# Altium integrated library Transistor.IntLib: 3457 symbols (part 63 of 78)
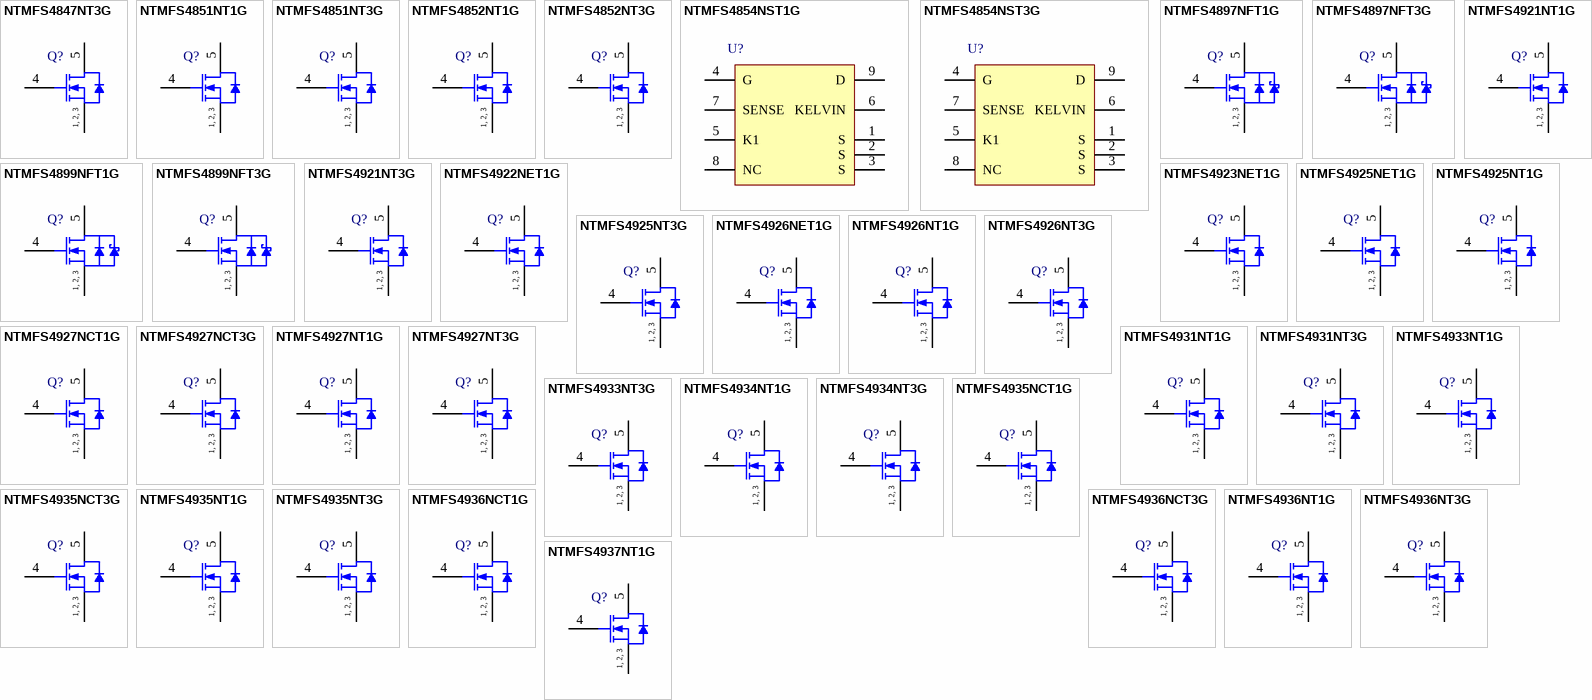
[diagram p156: symbols NTMFS4847NT3G to NTMFS4937NT1G]

## NTMFS4936NT1G
designator Q?
Power MOSFET, 30 V, 79 A, Single N-Channel, 5-Pin DFN, Pb-Free, Tape and Reel; Manufacturer: On Semiconductor; PartNumber: NTMFS4936NT1G; Channel Polarity: N Channel; Ciss Typ (pF): 3044; Coss Typ (pF): 1014; Crss Typ (pF): 39; ID Max (A): 79; Qrr Typ (nC): 36; V(BR)DSS Min (V): 30; VGS Max (V): 20; VGS(th) Max (V): 2.2; DatasheetVersion: Rev. 9; PackageVersion: Rev. H, 03/2013; PackageReference: DFN-5-488AA; PackageDescription: 5-Pin Small Outline No-Lead, Body 4.9 x 5.9 mm, Pitch 1.27 mm; Configuration: Single; Package Type: SO-8FL / DFN-5; Packing: Tape and Reel; RoHS: Pb-Free; Mounting Technology: Surface Mount; Code_JEDEC: MO-240A; ComponentLink1Description: Manufacturer URL; ComponentLink1URL: http://www.onsemi.com/; ComponentLink2Description: Datasheet; ComponentLink2URL: http://www.onsemi.com/pub_link/Collateral/NTMFS4936N-D.PDF; ComponentLink3Description: Package Specification; ComponentLink3URL: http://www.onsemi.com/pub_link/Collateral/488AA.PDF
footprint ONSC-DFN-5-488AA_V (DFN, 5-Leads, Body 5.9x4.9mm, Pitch 1.27mm)
pins: 1 S, 2 S, 3 S, 4 G, 5 D
text: 1, 2, 3

## NTMFS4936NT3G
designator Q?
Power MOSFET, 30 V, 79 A, Single N-Channel, 5-Pin DFN, Pb-Free, Tape and Reel; Manufacturer: On Semiconductor; PartNumber: NTMFS4936NT3G; Channel Polarity: N Channel; Ciss Typ (pF): 3044; Coss Typ (pF): 1014; Crss Typ (pF): 39; ID Max (A): 79; Qrr Typ (nC): 36; V(BR)DSS Min (V): 30; VGS Max (V): 20; VGS(th) Max (V): 2.2; DatasheetVersion: Rev. 9; PackageVersion: Rev. H, 03/2013; PackageReference: DFN-5-488AA; PackageDescription: 5-Pin Small Outline No-Lead, Body 4.9 x 5.9 mm, Pitch 1.27 mm; Configuration: Single; Package Type: SO-8FL / DFN-5; Packing: Tape and Reel; RoHS: Pb-Free; Mounting Technology: Surface Mount; Code_JEDEC: MO-240A; ComponentLink1Description: Manufacturer URL; ComponentLink1URL: http://www.onsemi.com/; ComponentLink2Description: Datasheet; ComponentLink2URL: http://www.onsemi.com/pub_link/Collateral/NTMFS4936N-D.PDF; ComponentLink3Description: Package Specification; ComponentLink3URL: http://www.onsemi.com/pub_link/Collateral/488AA.PDF
footprint ONSC-DFN-5-488AA_V (DFN, 5-Leads, Body 5.9x4.9mm, Pitch 1.27mm)
pins: 1 S, 2 S, 3 S, 4 G, 5 D
text: 1, 2, 3

## NTMFS4937NT1G
designator Q?
Power MOSFET, 30 V, 70 A, Single N-Channel, 5-Pin DFN, Pb-Free, Tape and Reel; Manufacturer: On Semiconductor; PartNumber: NTMFS4937NT1G; Channel Polarity: N Channel; Ciss Typ (pF): 2516; Coss Typ (pF): 840; Crss Typ (pF): 25; ID Max (A): 70; Qrr Typ (nC): 35; V(BR)DSS Min (V): 30; VGS Max (V): 20; VGS(th) Max (V): 2.2; DatasheetVersion: Rev. 6; PackageVersion: Rev. H, 03/2013; PackageReference: DFN-5-488AA; PackageDescription: 5-Pin Small Outline No-Lead, Body 4.9 x 5.9 mm, Pitch 1.27 mm; Configuration: Single; Package Type: SO-8FL / DFN-5; Packing: Tape and Reel; RoHS: Pb-Free; Mounting Technology: Surface Mount; Code_JEDEC: MO-240A; ComponentLink1Description: Manufacturer URL; ComponentLink1URL: http://www.onsemi.com/; ComponentLink2Description: Datasheet; ComponentLink2URL: http://www.onsemi.com/pub_link/Collateral/NTMFS4937N-D.PDF; ComponentLink3Description: Package Specification; ComponentLink3URL: http://www.onsemi.com/pub_link/Collateral/488AA.PDF
footprint ONSC-DFN-5-488AA_V (DFN, 5-Leads, Body 5.9x4.9mm, Pitch 1.27mm)
pins: 1 S, 2 S, 3 S, 4 G, 5 D
text: 1, 2, 3

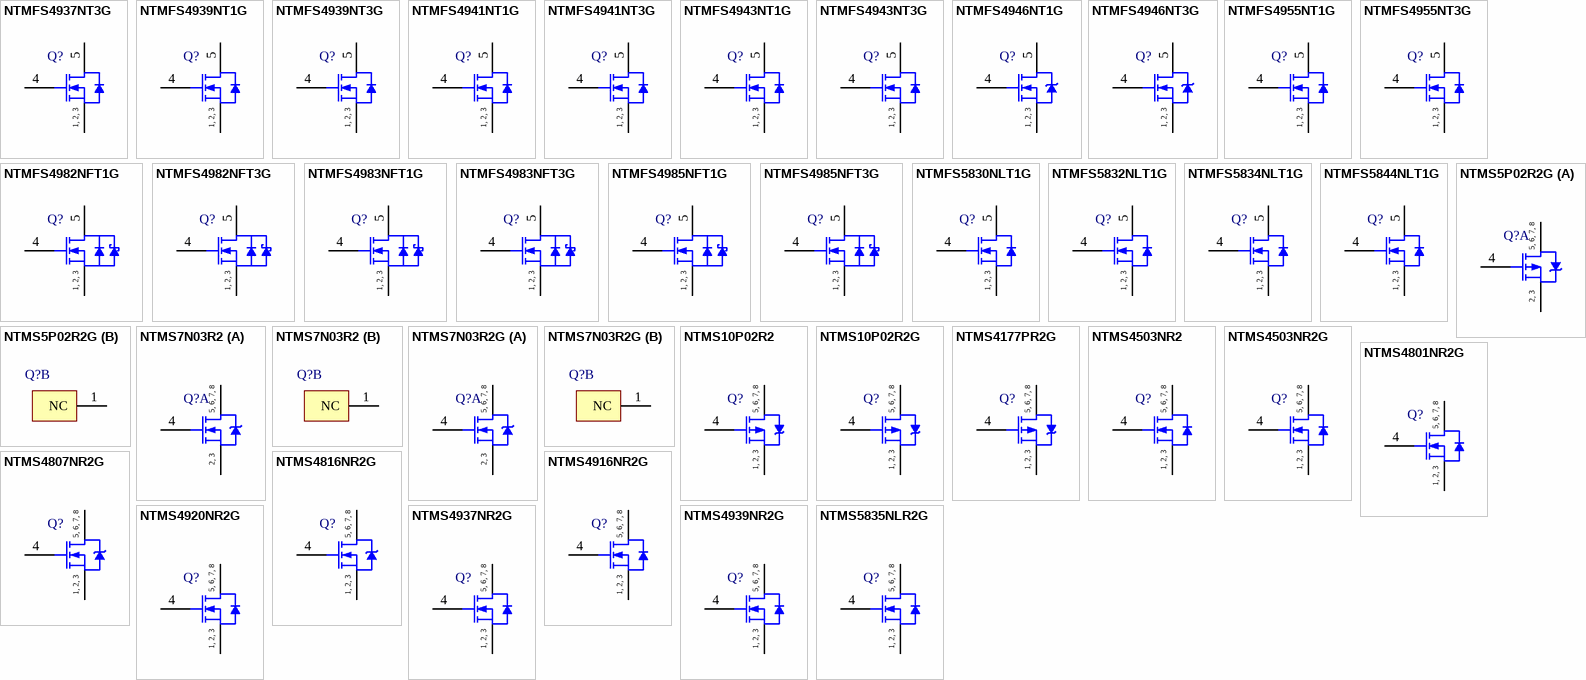
[diagram p76: symbols NTMFS4937NT3G to NTMS5835NLR2G]

## NTMFS4937NT3G
designator Q?
Power MOSFET, 30 V, 70 A, Single N-Channel, 5-Pin DFN, Pb-Free, Tape and Reel; Manufacturer: On Semiconductor; PartNumber: NTMFS4937NT3G; Channel Polarity: N Channel; Ciss Typ (pF): 2516; Coss Typ (pF): 840; Crss Typ (pF): 25; ID Max (A): 70; Qrr Typ (nC): 35; V(BR)DSS Min (V): 30; VGS Max (V): 20; VGS(th) Max (V): 2.2; DatasheetVersion: Rev. 6; PackageVersion: Rev. H, 03/2013; PackageReference: DFN-5-488AA; PackageDescription: 5-Pin Small Outline No-Lead, Body 4.9 x 5.9 mm, Pitch 1.27 mm; Configuration: Single; Package Type: SO-8FL / DFN-5; Packing: Tape and Reel; RoHS: Pb-Free; Mounting Technology: Surface Mount; Code_JEDEC: MO-240A; ComponentLink1Description: Manufacturer URL; ComponentLink1URL: http://www.onsemi.com/; ComponentLink2Description: Datasheet; ComponentLink2URL: http://www.onsemi.com/pub_link/Collateral/NTMFS4937N-D.PDF; ComponentLink3Description: Package Specification; ComponentLink3URL: http://www.onsemi.com/pub_link/Collateral/488AA.PDF
footprint ONSC-DFN-5-488AA_V (DFN, 5-Leads, Body 5.9x4.9mm, Pitch 1.27mm)
pins: 1 S, 2 S, 3 S, 4 G, 5 D
text: 1, 2, 3

## NTMFS4939NT1G
designator Q?
Power MOSFET, 30 V, 53 A, Single N-Channel, 5-Pin DFN, Pb-Free, Tape and Reel; Manufacturer: On Semiconductor; PartNumber: NTMFS4939NT1G; Channel Polarity: N Channel; Ciss Typ (pF): 1954; Coss Typ (pF): 642; Crss Typ (pF): 26.5; ID Max (A): 53; Qrr Typ (nC): 26; V(BR)DSS Min (V): 30; VGS Max (V): 20; VGS(th) Max (V): 2.2; DatasheetVersion: Rev. 5; PackageVersion: Rev. H, 03/2013; PackageReference: DFN-5-488AA; PackageDescription: 5-Pin Small Outline No-Lead, Body 4.9 x 5.9 mm, Pitch 1.27 mm; Configuration: Single; Package Type: SO-8FL / DFN-5; Packing: Tape and Reel; RoHS: Pb-Free; Mounting Technology: Surface Mount; Code_JEDEC: MO-240A; ComponentLink1Description: Manufacturer URL; ComponentLink1URL: http://www.onsemi.com/; ComponentLink2Description: Datasheet; ComponentLink2URL: http://www.onsemi.com/pub_link/Collateral/NTMFS4939N-D.PDF; ComponentLink3Description: Package Specification; ComponentLink3URL: http://www.onsemi.com/pub_link/Collateral/488AA.PDF
footprint ONSC-DFN-5-488AA_V (DFN, 5-Leads, Body 5.9x4.9mm, Pitch 1.27mm)
pins: 1 S, 2 S, 3 S, 4 G, 5 D
text: 1, 2, 3

## NTMFS4939NT3G
designator Q?
Power MOSFET, 30 V, 53 A, Single N-Channel, 5-Pin DFN, Pb-Free, Tape and Reel; Manufacturer: On Semiconductor; PartNumber: NTMFS4939NT3G; Channel Polarity: N Channel; Ciss Typ (pF): 1954; Coss Typ (pF): 642; Crss Typ (pF): 26.5; ID Max (A): 53; Qrr Typ (nC): 26; V(BR)DSS Min (V): 30; VGS Max (V): 20; VGS(th) Max (V): 2.2; DatasheetVersion: Rev. 5; PackageVersion: Rev. H, 03/2013; PackageReference: DFN-5-488AA; PackageDescription: 5-Pin Small Outline No-Lead, Body 4.9 x 5.9 mm, Pitch 1.27 mm; Configuration: Single; Package Type: SO-8FL / DFN-5; Packing: Tape and Reel; RoHS: Pb-Free; Mounting Technology: Surface Mount; Code_JEDEC: MO-240A; ComponentLink1Description: Manufacturer URL; ComponentLink1URL: http://www.onsemi.com/; ComponentLink2Description: Datasheet; ComponentLink2URL: http://www.onsemi.com/pub_link/Collateral/NTMFS4939N-D.PDF; ComponentLink3Description: Package Specification; ComponentLink3URL: http://www.onsemi.com/pub_link/Collateral/488AA.PDF
footprint ONSC-DFN-5-488AA_V (DFN, 5-Leads, Body 5.9x4.9mm, Pitch 1.27mm)
pins: 1 S, 2 S, 3 S, 4 G, 5 D
text: 1, 2, 3

## NTMFS4941NT1G
designator Q?
Power MOSFET, 30 V, 47 A, Single N-Channel, 5-Pin DFN, Pb-Free, Tape and Reel; Manufacturer: On Semiconductor; PartNumber: NTMFS4941NT1G; Channel Polarity: N Channel; Ciss Typ (pF): 1650; Coss Typ (pF): 570; Crss Typ (pF): 17; ID Max (A): 47; Qrr Typ (nC): 25; V(BR)DSS Min (V): 30; VGS Max (V): 20; VGS(th) Max (V): 2.2; DatasheetVersion: Rev. 4; PackageVersion: Rev. H, 03/2013; PackageReference: DFN-5-488AA; PackageDescription: 5-Pin Small Outline No-Lead, Body 4.9 x 5.9 mm, Pitch 1.27 mm; Configuration: Single; Package Type: SO-8FL / DFN-5; Packing: Tape and Reel; RoHS: Pb-Free; Mounting Technology: Surface Mount; Code_JEDEC: MO-240A; ComponentLink1Description: Manufacturer URL; ComponentLink1URL: http://www.onsemi.com/; ComponentLink2Description: Datasheet; ComponentLink2URL: http://www.onsemi.com/pub_link/Collateral/NTMFS4941N-D.PDF; ComponentLink3Description: Package Specification; ComponentLink3URL: http://www.onsemi.com/pub_link/Collateral/488AA.PDF
footprint ONSC-DFN-5-488AA_V (DFN, 5-Leads, Body 5.9x4.9mm, Pitch 1.27mm)
pins: 1 S, 2 S, 3 S, 4 G, 5 D
text: 1, 2, 3

## NTMFS4941NT3G
designator Q?
Power MOSFET, 30 V, 47 A, Single N-Channel, 5-Pin DFN, Pb-Free, Tape and Reel; Manufacturer: On Semiconductor; PartNumber: NTMFS4941NT3G; Channel Polarity: N Channel; Ciss Typ (pF): 1650; Coss Typ (pF): 570; Crss Typ (pF): 17; ID Max (A): 47; Qrr Typ (nC): 25; V(BR)DSS Min (V): 30; VGS Max (V): 20; VGS(th) Max (V): 2.2; DatasheetVersion: Rev. 4; PackageVersion: Rev. H, 03/2013; PackageReference: DFN-5-488AA; PackageDescription: 5-Pin Small Outline No-Lead, Body 4.9 x 5.9 mm, Pitch 1.27 mm; Configuration: Single; Package Type: SO-8FL / DFN-5; Packing: Tape and Reel; RoHS: Pb-Free; Mounting Technology: Surface Mount; Code_JEDEC: MO-240A; ComponentLink1Description: Manufacturer URL; ComponentLink1URL: http://www.onsemi.com/; ComponentLink2Description: Datasheet; ComponentLink2URL: http://www.onsemi.com/pub_link/Collateral/NTMFS4941N-D.PDF; ComponentLink3Description: Package Specification; ComponentLink3URL: http://www.onsemi.com/pub_link/Collateral/488AA.PDF
footprint ONSC-DFN-5-488AA_V (DFN, 5-Leads, Body 5.9x4.9mm, Pitch 1.27mm)
pins: 1 S, 2 S, 3 S, 4 G, 5 D
text: 1, 2, 3

## NTMFS4943NT1G
designator Q?
Power MOSFET, 30 V, 41 A, Single N-Channel, 5-Pin DFN, Pb-Free, Tape and Reel; Manufacturer: On Semiconductor; PartNumber: NTMFS4943NT1G; Channel Polarity: N Channel; Ciss Typ (pF): 1401; Coss Typ (pF): 446; Crss Typ (pF): 16; ID Max (A): 41; Qrr Typ (nC): 10; V(BR)DSS Min (V): 30; VGS Max (V): 20; VGS(th) Max (V): 2.2; DatasheetVersion: Rev. 3; PackageVersion: Rev. H, 03/2013; PackageReference: DFN-5-488AA; PackageDescription: 5-Pin Small Outline No-Lead, Body 4.9 x 5.9 mm, Pitch 1.27 mm; Configuration: Single; Package Type: SO-8FL / DFN-5; Packing: Tape and Reel; RoHS: Pb-Free; Mounting Technology: Surface Mount; Code_JEDEC: MO-240A; ComponentLink1Description: Manufacturer URL; ComponentLink1URL: http://www.onsemi.com/; ComponentLink2Description: Datasheet; ComponentLink2URL: http://www.onsemi.com/pub_link/Collateral/NTMFS4943N-D.PDF; ComponentLink3Description: Package Specification; ComponentLink3URL: http://www.onsemi.com/pub_link/Collateral/488AA.PDF
footprint ONSC-DFN-5-488AA_V (DFN, 5-Leads, Body 5.9x4.9mm, Pitch 1.27mm)
pins: 1 S, 2 S, 3 S, 4 G, 5 D
text: 1, 2, 3

## NTMFS4943NT3G
designator Q?
Power MOSFET, 30 V, 41 A, Single N-Channel, 5-Pin DFN, Pb-Free, Tape and Reel; Manufacturer: On Semiconductor; PartNumber: NTMFS4943NT3G; Channel Polarity: N Channel; Ciss Typ (pF): 1401; Coss Typ (pF): 446; Crss Typ (pF): 16; ID Max (A): 41; Qrr Typ (nC): 10; V(BR)DSS Min (V): 30; VGS Max (V): 20; VGS(th) Max (V): 2.2; DatasheetVersion: Rev. 3; PackageVersion: Rev. H, 03/2013; PackageReference: DFN-5-488AA; PackageDescription: 5-Pin Small Outline No-Lead, Body 4.9 x 5.9 mm, Pitch 1.27 mm; Configuration: Single; Package Type: SO-8FL / DFN-5; Packing: Tape and Reel; RoHS: Pb-Free; Mounting Technology: Surface Mount; Code_JEDEC: MO-240A; ComponentLink1Description: Manufacturer URL; ComponentLink1URL: http://www.onsemi.com/; ComponentLink2Description: Datasheet; ComponentLink2URL: http://www.onsemi.com/pub_link/Collateral/NTMFS4943N-D.PDF; ComponentLink3Description: Package Specification; ComponentLink3URL: http://www.onsemi.com/pub_link/Collateral/488AA.PDF
footprint ONSC-DFN-5-488AA_V (DFN, 5-Leads, Body 5.9x4.9mm, Pitch 1.27mm)
pins: 1 S, 2 S, 3 S, 4 G, 5 D
text: 1, 2, 3

## NTMFS4946NT1G
designator Q?
Power MOSFET, 30 V, 100 A, Single N-Channel, 5-Pin DFN, Pb-Free, Tape and Reel; Manufacturer: On Semiconductor; PartNumber: NTMFS4946NT1G; Channel Polarity: N Channel; Ciss Typ (pF): 3250; Coss Typ (pF): 562; Crss Typ (pF): 289; ID Max (A): 100; Qrr Typ (nC): 8.5; V(BR)DSS Min (V): 30; VGS Max (V): 20; VGS(th) Max (V): 2.5; DatasheetVersion: Rev. 2; PackageVersion: Rev. H, 03/2013; PackageReference: DFN-5-488AA; PackageDescription: 5-Pin Small Outline No-Lead, Body 4.9 x 5.9 mm, Pitch 1.27 mm; Configuration: Single; Package Type: SO-8FL / DFN-5; Packing: Tape and Reel; RoHS: Pb-Free; Mounting Technology: Surface Mount; Code_JEDEC: MO-240A; ComponentLink1Description: Manufacturer URL; ComponentLink1URL: http://www.onsemi.com/; ComponentLink2Description: Datasheet; ComponentLink2URL: http://www.onsemi.com/pub_link/Collateral/NTMFS4946N-D.PDF; ComponentLink3Description: Package Specification; ComponentLink3URL: http://www.onsemi.com/pub_link/Collateral/488AA.PDF
footprint ONSC-DFN-5-488AA_V (DFN, 5-Leads, Body 5.9x4.9mm, Pitch 1.27mm)
pins: 1 S, 2 S, 3 S, 4 G, 5 D
text: 1, 2, 3

## NTMFS4946NT3G
designator Q?
Power MOSFET, 30 V, 100 A, Single N-Channel, 5-Pin DFN, Pb-Free, Tape and Reel; Manufacturer: On Semiconductor; PartNumber: NTMFS4946NT3G; Channel Polarity: N Channel; Ciss Typ (pF): 3250; Coss Typ (pF): 562; Crss Typ (pF): 289; ID Max (A): 100; Qrr Typ (nC): 8.5; V(BR)DSS Min (V): 30; VGS Max (V): 20; VGS(th) Max (V): 2.5; DatasheetVersion: Rev. 2; PackageVersion: Rev. H, 03/2013; PackageReference: DFN-5-488AA; PackageDescription: 5-Pin Small Outline No-Lead, Body 4.9 x 5.9 mm, Pitch 1.27 mm; Configuration: Single; Package Type: SO-8FL / DFN-5; Packing: Tape and Reel; RoHS: Pb-Free; Mounting Technology: Surface Mount; Code_JEDEC: MO-240A; ComponentLink1Description: Manufacturer URL; ComponentLink1URL: http://www.onsemi.com/; ComponentLink2Description: Datasheet; ComponentLink2URL: http://www.onsemi.com/pub_link/Collateral/NTMFS4946N-D.PDF; ComponentLink3Description: Package Specification; ComponentLink3URL: http://www.onsemi.com/pub_link/Collateral/488AA.PDF
footprint ONSC-DFN-5-488AA_V (DFN, 5-Leads, Body 5.9x4.9mm, Pitch 1.27mm)
pins: 1 S, 2 S, 3 S, 4 G, 5 D
text: 1, 2, 3

## NTMFS4955NT1G
designator Q?
Power MOSFET, 30 V, 48 A, Single N-Channel, 5-Pin DFN, Pb-Free, Tape and Reel; Manufacturer: On Semiconductor; PartNumber: NTMFS4955NT1G; Channel Polarity: N Channel; Ciss Typ (pF): 1264; Coss Typ (pF): 483; Crss Typ (pF): 143; ID Max (A): 48; Qrr Typ (nC): 13.6; V(BR)DSS Min (V): 30; VGS Max (V): 20; VGS(th) Max (V): 2.2; DatasheetVersion: Rev. 6; PackageVersion: Rev. H, 03/2013; PackageReference: DFN-5-488AA; PackageDescription: 5-Pin Small Outline No-Lead, Body 4.9 x 5.9 mm, Pitch 1.27 mm; Configuration: Single; Package Type: SO-8FL / DFN-5; Packing: Tape and Reel; RoHS: Pb-Free; Mounting Technology: Surface Mount; Code_JEDEC: MO-240A; ComponentLink1Description: Manufacturer URL; ComponentLink1URL: http://www.onsemi.com/; ComponentLink2Description: Datasheet; ComponentLink2URL: http://www.onsemi.com/pub_link/Collateral/NTMFS4955N-D.PDF; ComponentLink3Description: Package Specification; ComponentLink3URL: http://www.onsemi.com/pub_link/Collateral/488AA.PDF
footprint ONSC-DFN-5-488AA_V (DFN, 5-Leads, Body 5.9x4.9mm, Pitch 1.27mm)
pins: 1 S, 2 S, 3 S, 4 G, 5 D
text: 1, 2, 3

## NTMFS4955NT3G
designator Q?
Power MOSFET, 30 V, 48 A, Single N-Channel, 5-Pin DFN, Pb-Free, Tape and Reel; Manufacturer: On Semiconductor; PartNumber: NTMFS4955NT3G; Channel Polarity: N Channel; Ciss Typ (pF): 1264; Coss Typ (pF): 483; Crss Typ (pF): 143; ID Max (A): 48; Qrr Typ (nC): 13.6; V(BR)DSS Min (V): 30; VGS Max (V): 20; VGS(th) Max (V): 2.2; DatasheetVersion: Rev. 6; PackageVersion: Rev. H, 03/2013; PackageReference: DFN-5-488AA; PackageDescription: 5-Pin Small Outline No-Lead, Body 4.9 x 5.9 mm, Pitch 1.27 mm; Configuration: Single; Package Type: SO-8FL / DFN-5; Packing: Tape and Reel; RoHS: Pb-Free; Mounting Technology: Surface Mount; Code_JEDEC: MO-240A; ComponentLink1Description: Manufacturer URL; ComponentLink1URL: http://www.onsemi.com/; ComponentLink2Description: Datasheet; ComponentLink2URL: http://www.onsemi.com/pub_link/Collateral/NTMFS4955N-D.PDF; ComponentLink3Description: Package Specification; ComponentLink3URL: http://www.onsemi.com/pub_link/Collateral/488AA.PDF
footprint ONSC-DFN-5-488AA_V (DFN, 5-Leads, Body 5.9x4.9mm, Pitch 1.27mm)
pins: 1 S, 2 S, 3 S, 4 G, 5 D
text: 1, 2, 3

## NTMFS4982NFT1G
designator Q?
Power MOSFET, 30 V, 207 A, Single N-Channel, 5-Pin DFN, Pb-Free, Tape and Reel; Manufacturer: On Semiconductor; PartNumber: NTMFS4982NFT1G; Channel Polarity: N Channel; Ciss Typ (pF): 6000; Configuration: with Schottky Diode; Coss Typ (pF): 2400; Crss Typ (pF): 160; ID Max (A): 207; Qrr Typ (nC): 71; V(BR)DSS Min (V): 30; VGS Max (V): 20; VGS(th) Max (V): 2.2; DatasheetVersion: Rev. 2; PackageVersion: Rev. H, 03/2013; PackageReference: DFN-5-488AA; PackageDescription: 5-Pin Small Outline No-Lead, Body 4.9 x 5.9 mm, Pitch 1.27 mm; Package Type: SO-8FL / DFN-5; Packing: Tape and Reel; RoHS: Pb-Free; Mounting Technology: Surface Mount; Code_JEDEC: MO-240A; ComponentLink1Description: Manufacturer URL; ComponentLink1URL: http://www.onsemi.com/; ComponentLink2Description: Datasheet; ComponentLink2URL: http://www.onsemi.com/pub_link/Collateral/NTMFS4982NF-D.PDF; ComponentLink3Description: Package Specification; ComponentLink3URL: http://www.onsemi.com/pub_link/Collateral/488AA.PDF
footprint ONSC-DFN-5-488AA_V (DFN, 5-Leads, Body 5.9x4.9mm, Pitch 1.27mm)
pins: 1 S, 2 S, 3 S, 4 G, 5 D
text: 1, 2, 3

## NTMFS4982NFT3G
designator Q?
Power MOSFET, 30 V, 207 A, Single N-Channel, 5-Pin DFN, Pb-Free, Tape and Reel; Manufacturer: On Semiconductor; PartNumber: NTMFS4982NFT3G; Channel Polarity: N Channel; Ciss Typ (pF): 6000; Configuration: with Schottky Diode; Coss Typ (pF): 2400; Crss Typ (pF): 160; ID Max (A): 207; Qrr Typ (nC): 71; V(BR)DSS Min (V): 30; VGS Max (V): 20; VGS(th) Max (V): 2.2; DatasheetVersion: Rev. 2; PackageVersion: Rev. H, 03/2013; PackageReference: DFN-5-488AA; PackageDescription: 5-Pin Small Outline No-Lead, Body 4.9 x 5.9 mm, Pitch 1.27 mm; Package Type: SO-8FL / DFN-5; Packing: Tape and Reel; RoHS: Pb-Free; Mounting Technology: Surface Mount; Code_JEDEC: MO-240A; ComponentLink1Description: Manufacturer URL; ComponentLink1URL: http://www.onsemi.com/; ComponentLink2Description: Datasheet; ComponentLink2URL: http://www.onsemi.com/pub_link/Collateral/NTMFS4982NF-D.PDF; ComponentLink3Description: Package Specification; ComponentLink3URL: http://www.onsemi.com/pub_link/Collateral/488AA.PDF
footprint ONSC-DFN-5-488AA_V (DFN, 5-Leads, Body 5.9x4.9mm, Pitch 1.27mm)
pins: 1 S, 2 S, 3 S, 4 G, 5 D
text: 1, 2, 3

## NTMFS4983NFT1G
designator Q?
Power MOSFET, 30 V, 106 A, Single N-Channel, 5-Pin DFN, Pb-Free, Tape and Reel; Manufacturer: On Semiconductor; PartNumber: NTMFS4983NFT1G; Channel Polarity: N Channel; Ciss Typ (pF): 3250; Configuration: with Schottky Diode; Coss Typ (pF): 1340; Crss Typ (pF): 90; ID Max (A): 106; Qrr Typ (nC): 50; V(BR)DSS Min (V): 30; VGS Max (V): 20; VGS(th) Max (V): 2.3; DatasheetVersion: Rev. 2; PackageVersion: Rev. H, 03/2013; PackageReference: DFN-5-488AA; PackageDescription: 5-Pin Small Outline No-Lead, Body 4.9 x 5.9 mm, Pitch 1.27 mm; Package Type: SO-8FL / DFN-5; Packing: Tape and Reel; RoHS: Pb-Free; Mounting Technology: Surface Mount; Code_JEDEC: MO-240A; ComponentLink1Description: Manufacturer URL; ComponentLink1URL: http://www.onsemi.com/; ComponentLink2Description: Datasheet; ComponentLink2URL: http://www.onsemi.com/pub_link/Collateral/NTMFS4983NF-D.PDF; ComponentLink3Description: Package Specification; ComponentLink3URL: http://www.onsemi.com/pub_link/Collateral/488AA.PDF
footprint ONSC-DFN-5-488AA_V (DFN, 5-Leads, Body 5.9x4.9mm, Pitch 1.27mm)
pins: 1 S, 2 S, 3 S, 4 G, 5 D
text: 1, 2, 3

## NTMFS4983NFT3G
designator Q?
Power MOSFET, 30 V, 106 A, Single N-Channel, 5-Pin DFN, Pb-Free, Tape and Reel; Manufacturer: On Semiconductor; PartNumber: NTMFS4983NFT3G; Channel Polarity: N Channel; Ciss Typ (pF): 3250; Configuration: with Schottky Diode; Coss Typ (pF): 1340; Crss Typ (pF): 90; ID Max (A): 106; Qrr Typ (nC): 50; V(BR)DSS Min (V): 30; VGS Max (V): 20; VGS(th) Max (V): 2.3; DatasheetVersion: Rev. 2; PackageVersion: Rev. H, 03/2013; PackageReference: DFN-5-488AA; PackageDescription: 5-Pin Small Outline No-Lead, Body 4.9 x 5.9 mm, Pitch 1.27 mm; Package Type: SO-8FL / DFN-5; Packing: Tape and Reel; RoHS: Pb-Free; Mounting Technology: Surface Mount; Code_JEDEC: MO-240A; ComponentLink1Description: Manufacturer URL; ComponentLink1URL: http://www.onsemi.com/; ComponentLink2Description: Datasheet; ComponentLink2URL: http://www.onsemi.com/pub_link/Collateral/NTMFS4983NF-D.PDF; ComponentLink3Description: Package Specification; ComponentLink3URL: http://www.onsemi.com/pub_link/Collateral/488AA.PDF
footprint ONSC-DFN-5-488AA_V (DFN, 5-Leads, Body 5.9x4.9mm, Pitch 1.27mm)
pins: 1 S, 2 S, 3 S, 4 G, 5 D
text: 1, 2, 3

## NTMFS4985NFT1G
designator Q?
Power MOSFET, 30 V, 65 A, Single N-Channel, 5-Pin DFN, Pb-Free, Tape and Reel; Manufacturer: On Semiconductor; PartNumber: NTMFS4985NFT1G; Channel Polarity: N Channel; Ciss Typ (pF): 2100; Configuration: with Schottky Diode; Coss Typ (pF): 900; Crss Typ (pF): 60; ID Max (A): 65; Qrr Typ (nC): 32; V(BR)DSS Min (V): 30; VGS Max (V): 20; VGS(th) Max (V): 2.3; DatasheetVersion: Rev. 2; PackageVersion: Rev. H, 03/2013; PackageReference: DFN-5-488AA; PackageDescription: 5-Pin Small Outline No-Lead, Body 4.9 x 5.9 mm, Pitch 1.27 mm; Package Type: SO-8FL / DFN-5; Packing: Tape and Reel; RoHS: Pb-Free; Mounting Technology: Surface Mount; Code_JEDEC: MO-240A; ComponentLink1Description: Manufacturer URL; ComponentLink1URL: http://www.onsemi.com/; ComponentLink2Description: Datasheet; ComponentLink2URL: http://www.onsemi.com/pub_link/Collateral/NTMFS4985NF-D.PDF; ComponentLink3Description: Package Specification; ComponentLink3URL: http://www.onsemi.com/pub_link/Collateral/488AA.PDF
footprint ONSC-DFN-5-488AA_V (DFN, 5-Leads, Body 5.9x4.9mm, Pitch 1.27mm)
pins: 1 S, 2 S, 3 S, 4 G, 5 D
text: 1, 2, 3

## NTMFS4985NFT3G
designator Q?
Power MOSFET, 30 V, 65 A, Single N-Channel, 5-Pin DFN, Pb-Free, Tape and Reel; Manufacturer: On Semiconductor; PartNumber: NTMFS4985NFT3G; Channel Polarity: N Channel; Ciss Typ (pF): 2100; Configuration: with Schottky Diode; Coss Typ (pF): 900; Crss Typ (pF): 60; ID Max (A): 65; Qrr Typ (nC): 32; V(BR)DSS Min (V): 30; VGS Max (V): 20; VGS(th) Max (V): 2.3; DatasheetVersion: Rev. 2; PackageVersion: Rev. H, 03/2013; PackageReference: DFN-5-488AA; PackageDescription: 5-Pin Small Outline No-Lead, Body 4.9 x 5.9 mm, Pitch 1.27 mm; Package Type: SO-8FL / DFN-5; Packing: Tape and Reel; RoHS: Pb-Free; Mounting Technology: Surface Mount; Code_JEDEC: MO-240A; ComponentLink1Description: Manufacturer URL; ComponentLink1URL: http://www.onsemi.com/; ComponentLink2Description: Datasheet; ComponentLink2URL: http://www.onsemi.com/pub_link/Collateral/NTMFS4985NF-D.PDF; ComponentLink3Description: Package Specification; ComponentLink3URL: http://www.onsemi.com/pub_link/Collateral/488AA.PDF
footprint ONSC-DFN-5-488AA_V (DFN, 5-Leads, Body 5.9x4.9mm, Pitch 1.27mm)
pins: 1 S, 2 S, 3 S, 4 G, 5 D
text: 1, 2, 3

## NTMFS5830NLT1G
designator Q?
Power MOSFET, 40 V, 172 A, 2.3 mOhm, 5-Pin DFN, Pb-Free, Tape and Reel; Manufacturer: On Semiconductor; PartNumber: NTMFS5830NLT1G; Channel Polarity: N Channel; Ciss Typ (pF): 5880; Configuration: Single; Coss Typ (pF): 750; Crss Typ (pF): 500; ID Max (A): 172; Qrr Typ (nC): 33; V(BR)DSS Min (V): 40; VGS Max (V): 20; VGS(th) Max (V): 3; DatasheetVersion: Rev. 2; PackageVersion: Rev. H, 03/2013; PackageReference: DFN-5-488AA; PackageDescription: 5-Pin Small Outline No-Lead, Body 4.9 x 5.9 mm, Pitch 1.27 mm; Package Type: SO-8FL / DFN-5; Packing: Tape and Reel; RoHS: Pb-Free; Mounting Technology: Surface Mount; Code_JEDEC: MO-240A; ComponentLink1Description: Manufacturer URL; ComponentLink1URL: http://www.onsemi.com/; ComponentLink2Description: Datasheet; ComponentLink2URL: http://www.onsemi.com/pub_link/Collateral/NTMFS5830NL-D.PDF; ComponentLink3Description: Package Specification; ComponentLink3URL: http://www.onsemi.com/pub_link/Collateral/488AA.PDF
footprint ONSC-DFN-5-488AA_V (DFN, 5-Leads, Body 5.9x4.9mm, Pitch 1.27mm)
pins: 1 S, 2 S, 3 S, 4 G, 5 D
text: 1, 2, 3

## NTMFS5832NLT1G
designator Q?
Power MOSFET, 40 V, 111 A, 4.2 mOhm, 5-Pin DFN, Pb-Free, Tape and Reel; Manufacturer: On Semiconductor; PartNumber: NTMFS5832NLT1G; Channel Polarity: N Channel; Ciss Typ (pF): 2700; Configuration: Single; Coss Typ (pF): 360; Crss Typ (pF): 250; ID Max (A): 111; Qrr Typ (nC): 23.4; V(BR)DSS Min (V): 40; VGS Max (V): 20; VGS(th) Max (V): 3; DatasheetVersion: Rev. 1; PackageVersion: Rev. H, 03/2013; PackageReference: DFN-5-488AA; PackageDescription: 5-Pin Small Outline No-Lead, Body 4.9 x 5.9 mm, Pitch 1.27 mm; Package Type: SO-8FL / DFN-5; Packing: Tape and Reel; RoHS: Pb-Free; Mounting Technology: Surface Mount; Code_JEDEC: MO-240A; ComponentLink1Description: Manufacturer URL; ComponentLink1URL: http://www.onsemi.com/; ComponentLink2Description: Datasheet; ComponentLink2URL: http://www.onsemi.com/pub_link/Collateral/NTMFS5832NL-D.PDF; ComponentLink3Description: Package Specification; ComponentLink3URL: http://www.onsemi.com/pub_link/Collateral/488AA.PDF
footprint ONSC-DFN-5-488AA_V (DFN, 5-Leads, Body 5.9x4.9mm, Pitch 1.27mm)
pins: 1 S, 2 S, 3 S, 4 G, 5 D
text: 1, 2, 3

## NTMFS5834NLT1G
designator Q?
Power MOSFET, 40 V, 75 A, 9.3 mOhm, Single N-Channel, 5-Pin DFN, Pb-Free, Tape and Reel; Manufacturer: On Semiconductor; PartNumber: NTMFS5834NLT1G; Channel Polarity: N Channel; Ciss Typ (pF): 1231; Coss Typ (pF): 198; Crss Typ (pF): 141; ID Max (A): 75; Qrr Typ (nC): 108; V(BR)DSS Min (V): 40; VGS Max (V): 20; VGS(th) Max (V): 3; DatasheetVersion: Rev. 5; PackageVersion: Rev. H, 03/2013; PackageReference: DFN-5-488AA; PackageDescription: 5-Pin Small Outline No-Lead, Body 4.9 x 5.9 mm, Pitch 1.27 mm; Supplier 1: Digi-Key; Supplier Part Number 1: NTMFS5834NLT1G-ND; Supplier 2: Mouser; Supplier Part Number 2: 863-NTMFS5834NLT1G; Configuration: Single; Package Type: SO-8FL / DFN-5; Packing: Tape and Reel; RoHS: Pb-Free; Mounting Technology: Surface Mount; Code_JEDEC: MO-240A; ComponentLink1Description: Manufacturer URL; ComponentLink1URL: http://www.onsemi.com/; ComponentLink2Description: Datasheet; ComponentLink2URL: http://www.onsemi.com/pub_link/Collateral/NTMFS5834NL-D.PDF; ComponentLink3Description: Package Specification; ComponentLink3URL: http://www.onsemi.com/pub_link/Collateral/488AA.PDF
footprint ONSC-DFN-5-488AA_V (DFN, 5-Leads, Body 5.9x4.9mm, Pitch 1.27mm)
pins: 1 S, 2 S, 3 S, 4 G, 5 D
text: 1, 2, 3

## NTMFS5844NLT1G
designator Q?
Power MOSFET, 60 V, 61 A, 12 mOhm, Single N-Channel, 5-Pin DFN, Pb-Free, Tape and Reel; Manufacturer: On Semiconductor; PartNumber: NTMFS5844NLT1G; Channel Polarity: N Channel; Ciss Typ (pF): 1460; Coss Typ (pF): 150; Crss Typ (pF): 96; ID Max (A): 61; Qrr Typ (nC): 15; V(BR)DSS Min (V): 60; VGS Max (V): 20; VGS(th) Max (V): 2.3; DatasheetVersion: Rev. 5; PackageVersion: Rev. H, 03/2013; PackageReference: DFN-5-488AA; PackageDescription: 5-Pin Small Outline No-Lead, Body 4.9 x 5.9 mm, Pitch 1.27 mm; Supplier 1: Digi-Key; Supplier Part Number 1: NTMFS5844NLT1G-ND; Supplier 2: Newark; Supplier Part Number 2: 24T3495; Supplier 3: Mouser; Supplier Part Number 3: 863-NTMFS5844NLT1G; Configuration: Single; Package Type: SO-8FL / DFN-5; Packing: Tape and Reel; RoHS: Pb-Free; Mounting Technology: Surface Mount; Code_JEDEC: MO-240A; ComponentLink1Description: Manufacturer URL; ComponentLink1URL: http://www.onsemi.com/; ComponentLink2Description: Datasheet; ComponentLink2URL: http://www.onsemi.com/pub_link/Collateral/NTMFS5844NL-D.PDF; ComponentLink3Description: Package Specification; ComponentLink3URL: http://www.onsemi.com/pub_link/Collateral/488AA.PDF
footprint ONSC-DFN-5-488AA_V (DFN, 5-Leads, Body 5.9x4.9mm, Pitch 1.27mm)
pins: 1 S, 2 S, 3 S, 4 G, 5 D
text: 1, 2, 3

## NTMS5P02R2G
designator Q?
Power MOSFET, -5.4 A, -20 V, Single P-Channel Enhancement-Mode, 8-Pin SOIC, Pb-Free, Tape and Reel; Manufacturer: On Semiconductor; PartNumber: NTMS5P02R2G; Channel Polarity: P Channel; Ciss Typ (pF): 1375; Coss Typ (pF): 510; Crss Typ (pF): 200; ID Max (A): 5.4; Qrr Typ (nC): 30; V(BR)DSS Min (V): 20; VGS Max (V): 10; VGS(th) Max (V): 1.25; DatasheetVersion: Rev. 3; PackageVersion: Rev. AK, 02/2011; PackageReference: SOIC-8-751-07; PackageDescription: 8-Pin Small Outline Integrated Circuit, Body 4.9 x 3.9 mm, Pitch 1.27 mm; Configuration: Single; Package Type: SOIC-8; Packing: Tape and Reel; RoHS: Pb-Free; Mounting Technology: Surface Mount; ComponentLink1Description: Manufacturer URL; ComponentLink1URL: http://www.onsemi.com/; ComponentLink2Description: Datasheet; ComponentLink2URL: http://www.onsemi.cn/pub_link/Collateral/NTMS5P02R2-D.PDF; ComponentLink3Description: Package Specification; ComponentLink3URL: http://www.onsemi.com/pub_link/Collateral/751-07.PDF
footprint ONSC-SOIC-8-751-07_V (SOIC, 8-Leads, Body 4.9x3.9mm, Pitch 1.27mm)
part A pins: 2 S, 3 S, 4 G, 5 D, 6 D, 7 D, 8 D
part B pins: 1 NC
part A text: 5, 6, 7, 8; 2, 3

## NTMS7N03R2
designator Q?
Power MOSFET, 7 A, 30 V, N-Channel, 8-Pin SOIC, Tape and Reel; Manufacturer: On Semiconductor; PartNumber: NTMS7N03R2; Channel Polarity: N Channel; Ciss Typ (pF): 1064; Configuration: Single; Coss Typ (pF): 300; Crss Typ (pF): 94; Qrr Typ (nC): 20; V(BR)DSS Min (V): 30; VGS(th) Max (V): 3; DatasheetVersion: Rev. 4; PackageVersion: Rev. AK, 02/2011; PackageReference: SOIC-8-751-07; PackageDescription: 8-Pin Small Outline Integrated Circuit, Body 4.9 x 3.9 mm, Pitch 1.27 mm; Package Type: SOIC-8; Packing: Tape and Reel; VGS Max (V): 20; Mounting Technology: Surface Mount; ComponentLink1Description: Manufacturer URL; ComponentLink1URL: http://www.onsemi.com/; ComponentLink2Description: Datasheet; ComponentLink2URL: http://www.onsemi.cn/pub_link/Collateral/NTMS7N03R2-D.PDF; ComponentLink3Description: Package Specification; ComponentLink3URL: http://www.onsemi.com/pub_link/Collateral/751-07.PDF
footprint ONSC-SOIC-8-751-07_V (SOIC, 8-Leads, Body 4.9x3.9mm, Pitch 1.27mm)
part A pins: 2 S, 3 S, 4 G, 5 D, 6 D, 7 D, 8 D
part B pins: 1 NC
part A text: 5, 6, 7, 8; 2, 3

## NTMS7N03R2G
designator Q?
Power MOSFET, 7 A, 30 V, N-Channel, 8-Pin SOIC, Pb-Free, Tape and Reel; Manufacturer: On Semiconductor; PartNumber: NTMS7N03R2G; Channel Polarity: N Channel; Ciss Typ (pF): 1064; Configuration: Single; Coss Typ (pF): 300; Crss Typ (pF): 94; Qrr Typ (nC): 20; V(BR)DSS Min (V): 30; VGS(th) Max (V): 3; DatasheetVersion: Rev. 4; PackageVersion: Rev. AK, 02/2011; PackageReference: SOIC-8-751-07; PackageDescription: 8-Pin Small Outline Integrated Circuit, Body 4.9 x 3.9 mm, Pitch 1.27 mm; Package Type: SOIC-8; Packing: Tape and Reel; RoHS: Pb-Free; VGS Max (V): 20; Mounting Technology: Surface Mount; ComponentLink1Description: Manufacturer URL; ComponentLink1URL: http://www.onsemi.com/; ComponentLink2Description: Datasheet; ComponentLink2URL: http://www.onsemi.cn/pub_link/Collateral/NTMS7N03R2-D.PDF; ComponentLink3Description: Package Specification; ComponentLink3URL: http://www.onsemi.com/pub_link/Collateral/751-07.PDF
footprint ONSC-SOIC-8-751-07_V (SOIC, 8-Leads, Body 4.9x3.9mm, Pitch 1.27mm)
part A pins: 2 S, 3 S, 4 G, 5 D, 6 D, 7 D, 8 D
part B pins: 1 NC
part A text: 5, 6, 7, 8; 2, 3

## NTMS10P02R2
designator Q?
Power MOSFET, -10 A, -20 V, Single P-Channel Enhancement-Mode, 8-Pin SOIC, Tape and Reel; Manufacturer: On Semiconductor; PartNumber: NTMS10P02R2; Channel Polarity: P Channel; Ciss Typ (pF): 3100; Coss Typ (pF): 1100; Crss Typ (pF): 475; Qrr Typ (nC): 75; V(BR)DSS Min (V): 20; VGS Max (V): 12; VGS(th) Max (V): 1.2; DatasheetVersion: Rev. 3; PackageVersion: Rev. AK, 02/2011; PackageReference: SOIC-8-751-07; PackageDescription: 8-Pin Small Outline Integrated Circuit, Body 4.9 x 3.9 mm, Pitch 1.27 mm; Configuration: Single; Package Type: SOIC-8; Packing: Tape and Reel; Mounting Technology: Surface Mount; ComponentLink1Description: Manufacturer URL; ComponentLink1URL: http://www.onsemi.com/; ComponentLink2Description: Datasheet; ComponentLink2URL: http://www.onsemi.cn/pub_link/Collateral/NTMS10P02R2-D.PDF; ComponentLink3Description: Package Specification; ComponentLink3URL: http://www.onsemi.com/pub_link/Collateral/751-07.PDF
footprint ONSC-SOIC-8-751-07_V (SOIC, 8-Leads, Body 4.9x3.9mm, Pitch 1.27mm)
pins: 1 S, 2 S, 3 S, 4 G, 5 D, 6 D, 7 D, 8 D
text: 5, 6, 7, 8; 1, 2, 3

## NTMS10P02R2G
designator Q?
Power MOSFET, -10 A, -20 V, Single P-Channel Enhancement-Mode, 8-Pin SOIC, Pb-Free, Tape and Reel; Manufacturer: On Semiconductor; PartNumber: NTMS10P02R2G; Channel Polarity: P Channel; Ciss Typ (pF): 3100; Coss Typ (pF): 1100; Crss Typ (pF): 475; Qrr Typ (nC): 75; V(BR)DSS Min (V): 20; VGS Max (V): 12; VGS(th) Max (V): 1.2; DatasheetVersion: Rev. 3; PackageVersion: Rev. AK, 02/2011; PackageReference: SOIC-8-751-07; PackageDescription: 8-Pin Small Outline Integrated Circuit, Body 4.9 x 3.9 mm, Pitch 1.27 mm; Configuration: Single; Package Type: SOIC-8; Packing: Tape and Reel; RoHS: Pb-Free; Mounting Technology: Surface Mount; ComponentLink1Description: Manufacturer URL; ComponentLink1URL: http://www.onsemi.com/; ComponentLink2Description: Datasheet; ComponentLink2URL: http://www.onsemi.cn/pub_link/Collateral/NTMS10P02R2-D.PDF; ComponentLink3Description: Package Specification; ComponentLink3URL: http://www.onsemi.com/pub_link/Collateral/751-07.PDF
footprint ONSC-SOIC-8-751-07_V (SOIC, 8-Leads, Body 4.9x3.9mm, Pitch 1.27mm)
pins: 1 S, 2 S, 3 S, 4 G, 5 D, 6 D, 7 D, 8 D
text: 5, 6, 7, 8; 1, 2, 3

## NTMS4177PR2G
designator Q?
Power MOSFET, -30 V, -11.4 A, P-Channel, 8-Pin SOIC, Pb-Free, Tape and Reel; Manufacturer: On Semiconductor; PartNumber: NTMS4177PR2G; Channel Polarity: P Channel; Ciss Typ (pF): 3100; Configuration: Single; Coss Typ (pF): 550; Crss Typ (pF): 370; ID Max (A): 11.4; Qrr Typ (nC): 30; VGS Max (V): 20; VGS(th) Max (V): 2.5; DatasheetVersion: Rev. 0; PackageVersion: Rev. AK, 02/2011; PackageReference: SOIC-8-751-07; PackageDescription: 8-Pin Small Outline Integrated Circuit, Body 4.9 x 3.9 mm, Pitch 1.27 mm; Package Type: SOIC-8; Packing: Tape and Reel; RoHS: Pb-Free; V(BR)DSS Min (V): 30; Mounting Technology: Surface Mount; ComponentLink1Description: Manufacturer URL; ComponentLink1URL: http://www.onsemi.com/; ComponentLink2Description: Datasheet; ComponentLink2URL: http://www.onsemi.cn/pub_link/Collateral/NTMS4177P-D.PDF; ComponentLink3Description: Package Specification; ComponentLink3URL: http://www.onsemi.com/pub_link/Collateral/751-07.PDF
footprint ONSC-SOIC-8-751-07_V (SOIC, 8-Leads, Body 4.9x3.9mm, Pitch 1.27mm)
pins: 1 S, 2 S, 3 S, 4 G, 5 D, 6 D, 7 D, 8 D
text: 5, 6, 7, 8; 1, 2, 3

## NTMS4503NR2
designator Q?
Power MOSFET, 28 V, 14 A, N-Channel, 8-Pin SOIC, Tape and Reel; Manufacturer: On Semiconductor; PartNumber: NTMS4503NR2; Channel Polarity: N Channel; Ciss Typ (pF): 2400; Configuration: Single; Coss Typ (pF): 1000; Crss Typ (pF): 375; ID Max (A): 14; Qrr Typ (nC): 25; V(BR)DSS Min (V): 28; VGS Max (V): 20; VGS(th) Max (V): 2; DatasheetVersion: Rev. 2; PackageVersion: Rev. AK, 02/2011; PackageReference: SOIC-8-751-07; PackageDescription: 8-Pin Small Outline Integrated Circuit, Body 4.9 x 3.9 mm, Pitch 1.27 mm; Package Type: SOIC-8; Packing: Tape and Reel; Mounting Technology: Surface Mount; ComponentLink1Description: Manufacturer URL; ComponentLink1URL: http://www.onsemi.com/; ComponentLink2Description: Datasheet; ComponentLink2URL: http://www.onsemi.cn/pub_link/Collateral/NTMS4503N-D.PDF; ComponentLink3Description: Package Specification; ComponentLink3URL: http://www.onsemi.com/pub_link/Collateral/751-07.PDF
footprint ONSC-SOIC-8-751-07_V (SOIC, 8-Leads, Body 4.9x3.9mm, Pitch 1.27mm)
pins: 1 S, 2 S, 3 S, 4 G, 5 D, 6 D, 7 D, 8 D
text: 5, 6, 7, 8; 1, 2, 3

## NTMS4503NR2G
designator Q?
Power MOSFET, 28 V, 14 A, N-Channel, 8-Pin SOIC, Pb-Free, Tape and Reel; Manufacturer: On Semiconductor; PartNumber: NTMS4503NR2G; Channel Polarity: N Channel; Ciss Typ (pF): 2400; Configuration: Single; Coss Typ (pF): 1000; Crss Typ (pF): 375; ID Max (A): 14; Qrr Typ (nC): 25; V(BR)DSS Min (V): 28; VGS Max (V): 20; VGS(th) Max (V): 2; DatasheetVersion: Rev. 2; PackageVersion: Rev. AK, 02/2011; PackageReference: SOIC-8-751-07; PackageDescription: 8-Pin Small Outline Integrated Circuit, Body 4.9 x 3.9 mm, Pitch 1.27 mm; Package Type: SOIC-8; Packing: Tape and Reel; RoHS: Pb-Free; Mounting Technology: Surface Mount; ComponentLink1Description: Manufacturer URL; ComponentLink1URL: http://www.onsemi.com/; ComponentLink2Description: Datasheet; ComponentLink2URL: http://www.onsemi.cn/pub_link/Collateral/NTMS4503N-D.PDF; ComponentLink3Description: Package Specification; ComponentLink3URL: http://www.onsemi.com/pub_link/Collateral/751-07.PDF
footprint ONSC-SOIC-8-751-07_V (SOIC, 8-Leads, Body 4.9x3.9mm, Pitch 1.27mm)
pins: 1 S, 2 S, 3 S, 4 G, 5 D, 6 D, 7 D, 8 D
text: 5, 6, 7, 8; 1, 2, 3

## NTMS4801NR2G
designator Q?
Power MOSFET, 30 V, 12 A, N-Channel, 8-Pin SOIC, Pb-Free, Tape and Reel; Manufacturer: On Semiconductor; PartNumber: NTMS4801NR2G; Channel Polarity: N Channel; Ciss Typ (pF): 1630; Configuration: Single; Coss Typ (pF): 288; Crss Typ (pF): 150; ID Max (A): 12; Qrr Typ (nC): 13; V(BR)DSS Min (V): 30; VGS Max (V): 20; VGS(th) Max (V): 2.5; DatasheetVersion: Rev. 2; PackageVersion: Rev. AK, 02/2011; PackageReference: SOIC-8-751-07; PackageDescription: 8-Pin Small Outline Integrated Circuit, Body 4.9 x 3.9 mm, Pitch 1.27 mm; Package Type: SOIC-8; Packing: Tape and Reel; RoHS: Pb-Free; Mounting Technology: Surface Mount; ComponentLink1Description: Manufacturer URL; ComponentLink1URL: http://www.onsemi.com/; ComponentLink2Description: Datasheet; ComponentLink2URL: http://www.onsemi.cn/pub_link/Collateral/NTMS4801N-D.PDF; ComponentLink3Description: Package Specification; ComponentLink3URL: http://www.onsemi.com/pub_link/Collateral/751-07.PDF
footprint ONSC-SOIC-8-751-07_V (SOIC, 8-Leads, Body 4.9x3.9mm, Pitch 1.27mm)
pins: 1 S, 2 S, 3 S, 4 G, 5 D, 6 D, 7 D, 8 D
text: 5, 6, 7, 8; 1, 2, 3

## NTMS4807NR2G
designator Q?
Power MOSFET, 30 V, 14.8 A, N-Channel, 8-Pin SOIC, Pb-Free, Tape and Reel; Manufacturer: On Semiconductor; PartNumber: NTMS4807NR2G; Channel Polarity: N Channel; Ciss Typ (pF): 2900; Configuration: Single; Coss Typ (pF): 562; Crss Typ (pF): 307; ID Max (A): 14.8; Qrr Typ (nC): 23; V(BR)DSS Min (V): 30; VGS Max (V): 20; VGS(th) Max (V): 3; DatasheetVersion: Rev. 0; PackageVersion: Rev. AK, 02/2011; PackageReference: SOIC-8-751-07; PackageDescription: 8-Pin Small Outline Integrated Circuit, Body 4.9 x 3.9 mm, Pitch 1.27 mm; Package Type: SOIC-8; Packing: Tape and Reel; RoHS: Pb-Free; Mounting Technology: Surface Mount; ComponentLink1Description: Manufacturer URL; ComponentLink1URL: http://www.onsemi.com/; ComponentLink2Description: Datasheet; ComponentLink2URL: http://www.onsemi.cn/pub_link/Collateral/NTMS4807N-D.PDF; ComponentLink3Description: Package Specification; ComponentLink3URL: http://www.onsemi.com/pub_link/Collateral/751-07.PDF
footprint ONSC-SOIC-8-751-07_V (SOIC, 8-Leads, Body 4.9x3.9mm, Pitch 1.27mm)
pins: 1 S, 2 S, 3 S, 4 G, 5 D, 6 D, 7 D, 8 D
text: 5, 6, 7, 8; 1, 2, 3

## NTMS4816NR2G
designator Q?
Power MOSFET, 30 V, 11 A, N-Channel, 8-Pin SOIC, Pb-Free, Tape and Reel; Manufacturer: On Semiconductor; PartNumber: NTMS4816NR2G; Channel Polarity: N Channel; Ciss Typ (pF): 1060; Configuration: Single; Coss Typ (pF): 220; Crss Typ (pF): 126; ID Max (A): 11; Qrr Typ (nC): 9; V(BR)DSS Min (V): 30; VGS Max (V): 20; VGS(th) Max (V): 3; DatasheetVersion: Rev. 2; PackageVersion: Rev. AK, 02/2011; PackageReference: SOIC-8-751-07; PackageDescription: 8-Pin Small Outline Integrated Circuit, Body 4.9 x 3.9 mm, Pitch 1.27 mm; Package Type: SOIC-8; Packing: Tape and Reel; RoHS: Pb-Free; Mounting Technology: Surface Mount; ComponentLink1Description: Manufacturer URL; ComponentLink1URL: http://www.onsemi.com/; ComponentLink2Description: Datasheet; ComponentLink2URL: http://www.onsemi.cn/pub_link/Collateral/NTMS4816N-D.PDF; ComponentLink3Description: Package Specification; ComponentLink3URL: http://www.onsemi.com/pub_link/Collateral/751-07.PDF
footprint ONSC-SOIC-8-751-07_V (SOIC, 8-Leads, Body 4.9x3.9mm, Pitch 1.27mm)
pins: 1 S, 2 S, 3 S, 4 G, 5 D, 6 D, 7 D, 8 D
text: 5, 6, 7, 8; 1, 2, 3

## NTMS4916NR2G
designator Q?
Power MOSFET, 30 V, 11.6 A, N-Channel, 8-Pin SOIC, Pb-Free, Tape and Reel; Manufacturer: On Semiconductor; PartNumber: NTMS4916NR2G; Channel Polarity: N Channel; Ciss Typ (pF): 1376; Configuration: Single; Coss Typ (pF): 401; Crss Typ (pF): 205; ID Max (A): 11.6; Qrr Typ (nC): 20; V(BR)DSS Min (V): 30; VGS(th) Max (V): 2.5; DatasheetVersion: Rev. 0; PackageVersion: Rev. AK, 02/2011; PackageReference: SOIC-8-751-07; PackageDescription: 8-Pin Small Outline Integrated Circuit, Body 4.9 x 3.9 mm, Pitch 1.27 mm; Package Type: SOIC-8; Packing: Tape and Reel; RoHS: Pb-Free; VGS Max (V): 20; Mounting Technology: Surface Mount; ComponentLink1Description: Manufacturer URL; ComponentLink1URL: http://www.onsemi.com/; ComponentLink2Description: Datasheet; ComponentLink2URL: http://www.onsemi.cn/pub_link/Collateral/NTMS4916N-D.PDF; ComponentLink3Description: Package Specification; ComponentLink3URL: http://www.onsemi.com/pub_link/Collateral/751-07.PDF
footprint ONSC-SOIC-8-751-07_V (SOIC, 8-Leads, Body 4.9x3.9mm, Pitch 1.27mm)
pins: 1 S, 2 S, 3 S, 4 G, 5 D, 6 D, 7 D, 8 D
text: 5, 6, 7, 8; 1, 2, 3

## NTMS4920NR2G
designator Q?
Power MOSFET, 30 V, 17 A, N-Channel, 8-Pin SOIC, Pb-Free, Tape and Reel; Manufacturer: On Semiconductor; PartNumber: NTMS4920NR2G; Channel Polarity: N Channel; Ciss Typ (pF): 4068; Configuration: Single; Coss Typ (pF): 1170; Crss Typ (pF): 41; ID Max (A): 17; Qrr Typ (nC): 65; V(BR)DSS Min (V): 30; VGS Max (V): 20; VGS(th) Max (V): 3; DatasheetVersion: Rev. 1; PackageVersion: Rev. AK, 02/2011; PackageReference: SOIC-8-751-07; PackageDescription: 8-Pin Small Outline Integrated Circuit, Body 4.9 x 3.9 mm, Pitch 1.27 mm; Package Type: SOIC-8; Packing: Tape and Reel; RoHS: Pb-Free; Mounting Technology: Surface Mount; ComponentLink1Description: Manufacturer URL; ComponentLink1URL: http://www.onsemi.com/; ComponentLink2Description: Datasheet; ComponentLink2URL: http://www.onsemi.cn/pub_link/Collateral/NTMS4920N-D.PDF; ComponentLink3Description: Package Specification; ComponentLink3URL: http://www.onsemi.com/pub_link/Collateral/751-07.PDF
footprint ONSC-SOIC-8-751-07_V (SOIC, 8-Leads, Body 4.9x3.9mm, Pitch 1.27mm)
pins: 1 S, 2 S, 3 S, 4 G, 5 D, 6 D, 7 D, 8 D
text: 5, 6, 7, 8; 1, 2, 3

## NTMS4937NR2G
designator Q?
Power MOSFET, 30 V, 13.6 A, N-Channel, 8-Pin SOIC, Pb-Free, Tape and Reel; Manufacturer: On Semiconductor; PartNumber: NTMS4937NR2G; Channel Polarity: N Channel; Ciss Typ (pF): 2563; Configuration: Single; Coss Typ (pF): 715; Crss Typ (pF): 25; ID Max (A): 13.6; Qrr Typ (nC): 38; V(BR)DSS Min (V): 30; VGS Max (V): 20; VGS(th) Max (V): 2.5; DatasheetVersion: Rev. 0; PackageVersion: Rev. AK, 02/2011; PackageReference: SOIC-8-751-07; PackageDescription: 8-Pin Small Outline Integrated Circuit, Body 4.9 x 3.9 mm, Pitch 1.27 mm; Package Type: SOIC-8; Packing: Tape and Reel; RoHS: Pb-Free; Mounting Technology: Surface Mount; ComponentLink1Description: Manufacturer URL; ComponentLink1URL: http://www.onsemi.com/; ComponentLink2Description: Datasheet; ComponentLink2URL: http://www.onsemi.cn/pub_link/Collateral/NTMS4937N-D.PDF; ComponentLink3Description: Package Specification; ComponentLink3URL: http://www.onsemi.com/pub_link/Collateral/751-07.PDF
footprint ONSC-SOIC-8-751-07_V (SOIC, 8-Leads, Body 4.9x3.9mm, Pitch 1.27mm)
pins: 1 S, 2 S, 3 S, 4 G, 5 D, 6 D, 7 D, 8 D
text: 5, 6, 7, 8; 1, 2, 3

## NTMS4939NR2G
designator Q?
Power MOSFET, 30 V, 12.5 A, N-Channel, 8-Pin SOIC, Pb-Free, Tape and Reel; Manufacturer: On Semiconductor; PartNumber: NTMS4939NR2G; Channel Polarity: N Channel; Ciss Typ (pF): 2000; Configuration: Single; Coss Typ (pF): 620; Crss Typ (pF): 16; ID Max (A): 12.5; Qrr Typ (nC): 32; V(BR)DSS Min (V): 30; VGS Max (V): 20; VGS(th) Max (V): 2.5; DatasheetVersion: Rev. 0; PackageVersion: Rev. AK, 02/2011; PackageReference: SOIC-8-751-07; PackageDescription: 8-Pin Small Outline Integrated Circuit, Body 4.9 x 3.9 mm, Pitch 1.27 mm; Package Type: SOIC-8; Packing: Tape and Reel; RoHS: Pb-Free; Mounting Technology: Surface Mount; ComponentLink1Description: Manufacturer URL; ComponentLink1URL: http://www.onsemi.com/; ComponentLink2Description: Datasheet; ComponentLink2URL: http://www.onsemi.cn/pub_link/Collateral/NTMS4939N-D.PDF; ComponentLink3Description: Package Specification; ComponentLink3URL: http://www.onsemi.com/pub_link/Collateral/751-07.PDF
footprint ONSC-SOIC-8-751-07_V (SOIC, 8-Leads, Body 4.9x3.9mm, Pitch 1.27mm)
pins: 1 S, 2 S, 3 S, 4 G, 5 D, 6 D, 7 D, 8 D
text: 5, 6, 7, 8; 1, 2, 3

## NTMS5835NLR2G
designator Q?
Power MOSFET, 40 V, 12 A, 10 mOhm, 8-Pin SOIC, Pb-Free, Tape and Reel; Manufacturer: On Semiconductor; PartNumber: NTMS5835NLR2G; Channel Polarity: N Channel; Ciss Typ (pF): 2115; Configuration: Single; Coss Typ (pF): 315; Crss Typ (pF): 220; ID Max (A): 12; Qrr Typ (nC): 17; V(BR)DSS Min (V): 40; VGS Max (V): 20; VGS(th) Max (V): 3; DatasheetVersion: Rev. 1; PackageVersion: Rev. AK, 02/2011; PackageReference: SOIC-8-751-07; PackageDescription: 8-Pin Small Outline Integrated Circuit, Body 4.9 x 3.9 mm, Pitch 1.27 mm; Package Type: SOIC-8; Packing: Tape and Reel; RoHS: Pb-Free; Mounting Technology: Surface Mount; ComponentLink1Description: Manufacturer URL; ComponentLink1URL: http://www.onsemi.com/; ComponentLink2Description: Datasheet; ComponentLink2URL: http://www.onsemi.cn/pub_link/Collateral/NTMS5835NL-D.PDF; ComponentLink3Description: Package Specification; ComponentLink3URL: http://www.onsemi.com/pub_link/Collateral/751-07.PDF
footprint ONSC-SOIC-8-751-07_V (SOIC, 8-Leads, Body 4.9x3.9mm, Pitch 1.27mm)
pins: 1 S, 2 S, 3 S, 4 G, 5 D, 6 D, 7 D, 8 D
text: 5, 6, 7, 8; 1, 2, 3

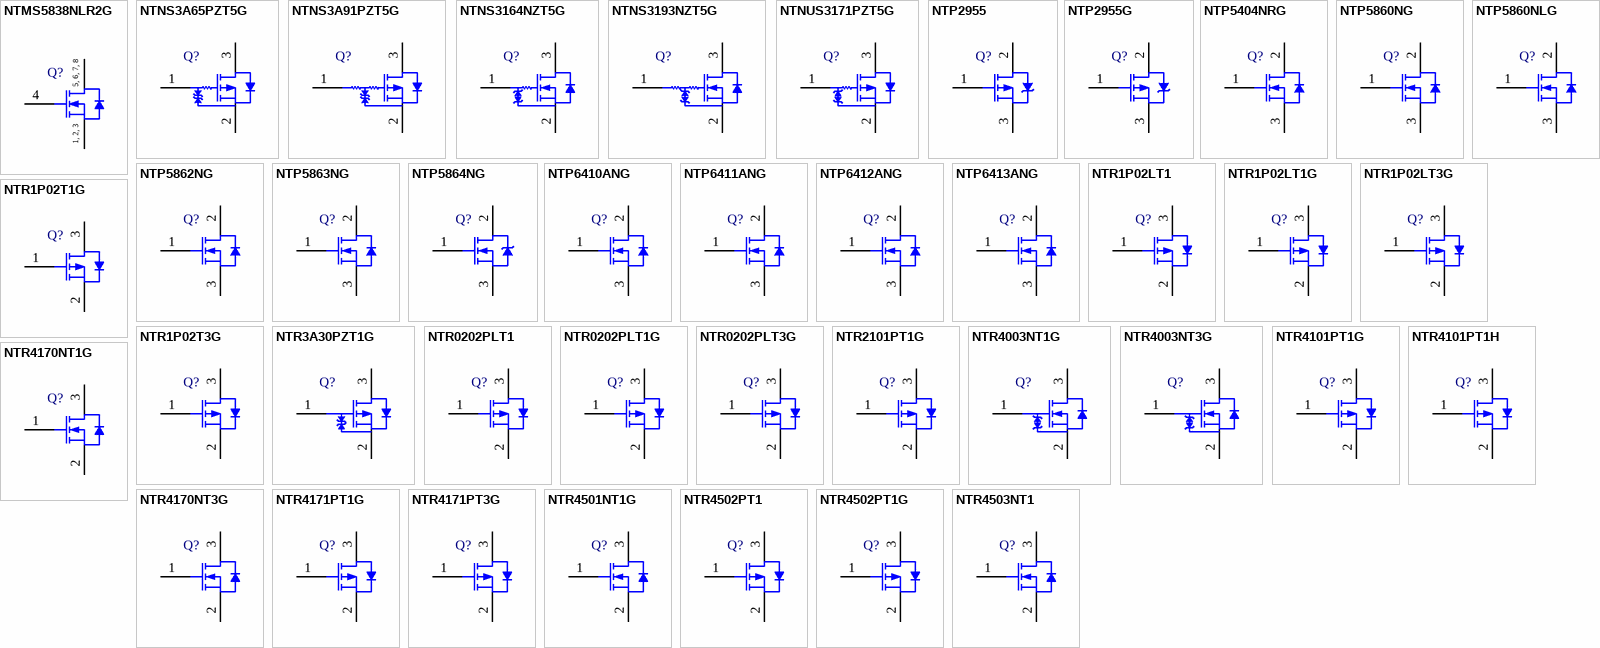
[diagram p77: symbols NTMS5838NLR2G to NTR4503NT1]

## NTMS5838NLR2G
designator Q?
Power MOSFET, 40 V, 7.5 A, 20 mOhm, 8-Pin SOIC, Pb-Free, Tape and Reel; Manufacturer: On Semiconductor; PartNumber: NTMS5838NLR2G; Channel Polarity: N Channel; Ciss Typ (pF): 785; Configuration: Single; Coss Typ (pF): 123; Crss Typ (pF): 90; ID Max (A): 7.5; Qrr Typ (nC): 10; V(BR)DSS Min (V): 40; VGS Max (V): 20; VGS(th) Max (V): 3; DatasheetVersion: Rev. 2; PackageVersion: Rev. AK, 02/2011; PackageReference: SOIC-8-751-07; PackageDescription: 8-Pin Small Outline Integrated Circuit, Body 4.9 x 3.9 mm, Pitch 1.27 mm; Package Type: SOIC-8; Packing: Tape and Reel; RoHS: Pb-Free; Mounting Technology: Surface Mount; ComponentLink1Description: Manufacturer URL; ComponentLink1URL: http://www.onsemi.com/; ComponentLink2Description: Datasheet; ComponentLink2URL: http://www.onsemi.cn/pub_link/Collateral/NTMS5838NL-D.PDF; ComponentLink3Description: Package Specification; ComponentLink3URL: http://www.onsemi.com/pub_link/Collateral/751-07.PDF
footprint ONSC-SOIC-8-751-07_V (SOIC, 8-Leads, Body 4.9x3.9mm, Pitch 1.27mm)
pins: 1 S, 2 S, 3 S, 4 G, 5 D, 6 D, 7 D, 8 D
text: 5, 6, 7, 8; 1, 2, 3

## NTNS3A65PZT5G
designator Q?
Small Signal MOSFET, -20 V, -281 mA, Single P-Channel, 3-Pin SOT-883, Pb-Free, Tape and Reel; Manufacturer: On Semiconductor; PartNumber: NTNS3A65PZT5G; Channel Polarity: P Channel; Ciss Typ (pF): 44; Coss Typ (pF): 6.7; Crss Typ (pF): 5.5; ID Max (A): 0.281; V(BR)DSS Min (V): 20; VGS Max (V): 8; VGS(th) Max (V): 1; DatasheetVersion: Rev. 0; PackageVersion: Rev. A, 03/2012; PackageReference: SOT-883-3-506CB; PackageDescription: 3-Pin Small Outline Transistor, Body 1.0125 x 0.6125 mm, Pitch 0.35 mm; Configuration: Single; Package Type: SOT-883; Packing: Tape and Reel; RoHS: Pb-Free; Mounting Technology: Surface Mount; ComponentLink1Description: Manufacturer URL; ComponentLink1URL: http://www.onsemi.com/; ComponentLink2Description: Datasheet; ComponentLink2URL: http://www.onsemi.cn/pub_link/Collateral/NTNS3A65PZ-D.PDF; ComponentLink3Description: Package Specification; ComponentLink3URL: http://www.onsemi.com/pub_link/Collateral/506CB.PDF
footprint ONSC-SOT-883-3-506CB_V (SOT, 3-Leads, Body 1.012x0.613mm, Pitch 0.35mm)
pins: 1 G, 2 S, 3 D

## NTNS3A91PZT5G
designator Q?
Small Signal MOSFET, -20 V, -223 mA, Single P-Channel, 3-Pin XLLGA, Pb-Free, Tape and Reel; Manufacturer: On Semiconductor; PartNumber: NTNS3A91PZT5G; Channel Polarity: P Channel; Ciss Typ (pF): 41; Coss Typ (pF): 4.6; Crss Typ (pF): 4.1; ID Max (A): 0.223; V(BR)DSS Min (V): 20; VGS Max (V): 8; VGS(th) Max (V): 1; DatasheetVersion: Rev. 1; PackageVersion: Rev. O, 09/2012; PackageReference: XLLGA-3-713AB; PackageDescription: 3-Pin Ultra Small and Thin Package, Body 0.62 x 0.62 mm, Pitch 0.35 mm; Configuration: Single; Package Type: xLLGA-3; Packing: Tape and Reel; RoHS: Pb-Free; Mounting Technology: Surface Mount; ComponentLink1Description: Manufacturer URL; ComponentLink1URL: http://www.onsemi.com/; ComponentLink2Description: Datasheet; ComponentLink2URL: http://www.onsemi.cn/pub_link/Collateral/NTNS3A91PZ-D.PDF; ComponentLink3Description: Package Specification; ComponentLink3URL: http://www.onsemi.cn/pub_link/Collateral/713AB.PDF
footprint ONSC-XLLGA-3-713AB_V (XLLGA, 3-Leads, Body 0.62x0.62mm, Pitch 0.35mm)
pins: 1 G, 2 S, 3 D

## NTNS3164NZT5G
designator Q?
Small Signal MOSFET, 20 V, 361 mA, Single N-Channel, 3-Pin SOT-883, Pb-Free, Tape and Reel; Manufacturer: On Semiconductor; PartNumber: NTNS3164NZT5G; Channel Polarity: N Channel; Ciss Typ (pF): 24; Coss Typ (pF): 5; Crss Typ (pF): 3.4; ID Max (A): 0.361; V(BR)DSS Min (V): 20; VGS Max (V): 8; VGS(th) Max (V): 1; DatasheetVersion: Rev. 0; PackageVersion: Rev. A, 03/2012; PackageReference: SOT-883-3-506CB; PackageDescription: 3-Pin Small Outline Transistor, Body 1.0125 x 0.6125 mm, Pitch 0.35 mm; Supplier 1: Newark; Supplier Part Number 1: 72W2330; Supplier 2: Mouser; Supplier Part Number 2: 863-NTNS3164NZT5G; Configuration: Single; Package Type: SOT-883; Packing: Tape and Reel; RoHS: Pb-Free; Mounting Technology: Surface Mount; ComponentLink1Description: Manufacturer URL; ComponentLink1URL: http://www.onsemi.com/; ComponentLink2Description: Datasheet; ComponentLink2URL: http://www.onsemi.com/pub_link/Collateral/NTNS3164NZ-D.PDF; ComponentLink3Description: Package Specification; ComponentLink3URL: http://www.onsemi.com/pub_link/Collateral/506CB.PDF
footprint ONSC-SOT-883-3-506CB_V (SOT, 3-Leads, Body 1.012x0.613mm, Pitch 0.35mm)
pins: 1 G, 2 S, 3 D